# Altium schematic symbol library LM217LD13TR.Schlib: 1 symbol
Pins are listed as number, name and electrical type; pins without a type are passive.

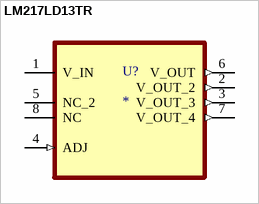
[diagram p0: symbol LM217LD13TR]

## LM217LD13TR
designator U?
Linear Voltage Regulator IC Positive Adjustable 1 Output 100mA 8-SOIC
pins: 1 V_IN (power), 2 V_OUT_2 (out), 3 V_OUT_3 (out), 4 ADJ (in), 5 NC_2, 6 V_OUT (out), 7 V_OUT_4 (out), 8 NC